# Altium footprint library SeniorProject.PcbLib: 26 footprints (part 1 of 2)
Each footprint in its own frame and in the unit in brackets; x right, y up, seen from the top. Pads: shape width x height; smd on the part's side, far side on the other; paste and mask are expansions set on the pad; w line width, h text height; cw(c..) or ccw(c..) is an arc to the next point about the centre after c.
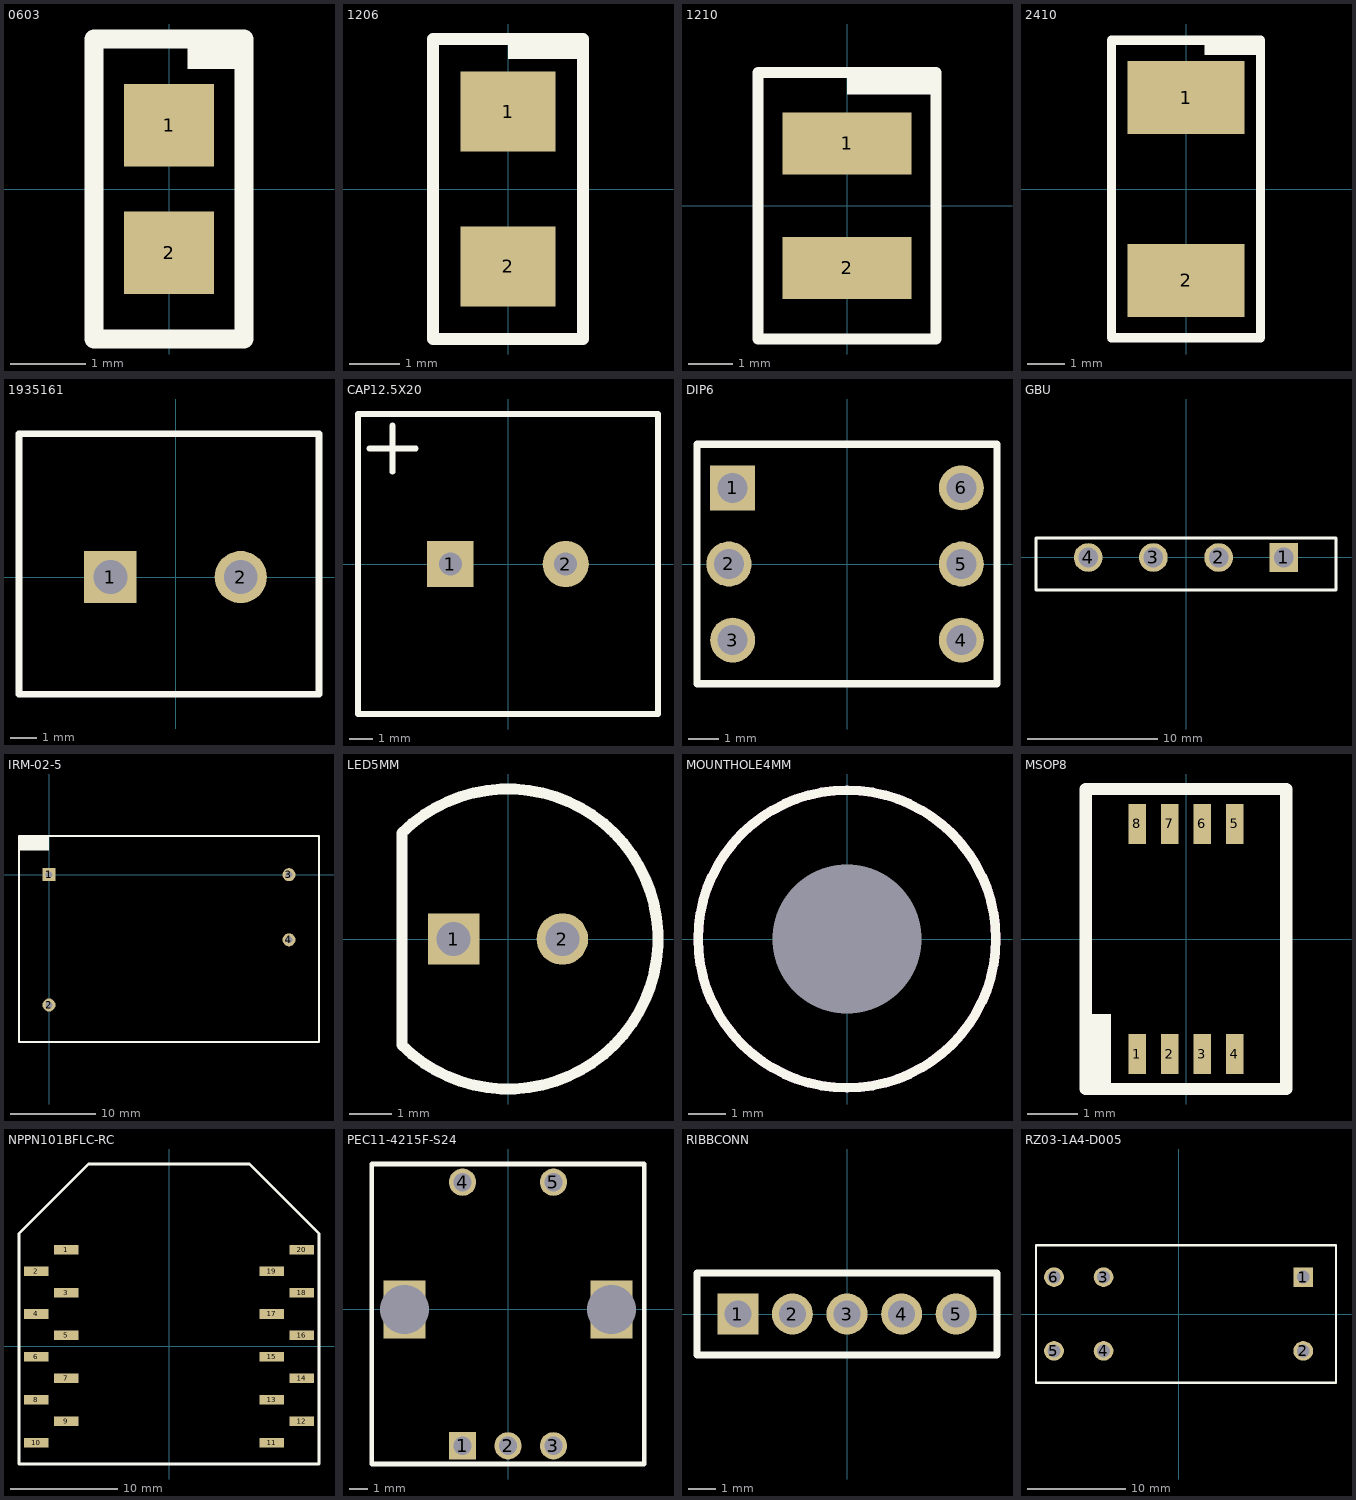
[diagram p0: the footprints below, top view; thin cyan lines are the x and y axes]

## 0603 [mm]
pads (2):
  rect 1.2x1.1 smd: 1(0,0.85) 2(0,-0.85)
Top Overlay:
  rectangle: 0.25,1.6 1,2
  lines w0.25: -1,-2 1,-2 1,2 -1,2 -1,-2
3D body "RES0603.STEP": height 0.44, standoff -0.02, extent -0.43,-0.775 0.43,0.775

## 1206 [mm]
pads (2):
  rect 1.9x1.6 smd: 1(0,1.55) 2(0,-1.55)
Top Overlay:
  rectangle: 0,2.6 1.5,3
  lines w0.25: -1.5,-3 1.5,-3 1.5,3 -1.5,3 -1.5,-3
3D body: height 1.5, standoff 0, extent -0.8,-1.6 0.8,1.6

## 1210 [mm]
pads (2):
  rect 2.9x1.4 smd: 1(0,1.4) 2(0,-1.4)
Top Overlay:
  region: 2,2.5 2,3 0,3 0,2.5
  lines w0.25: -2,-3 -2,3 2,3 2,-3 -2,-3
3D body: height 2.7, standoff 0, extent -1.35,-1.75 1.35,1.75

## 2410 [mm]
pads (2):
  rect 3.15x1.96 smd: 1(0,2.455) 2(0,-2.455)
Top Overlay:
  rectangle: 0.5,3.6 2,4
  lines w0.25: -2,-4 -2,4 2,4 2,-4 -2,-4
3D body "0679H.stp": height 2.58, standoff 0.04, extent -1.27,-3.05 1.27,3.05

## 1935161 [mm]
pads (2):
  rect 2x2 hole 1.3: 1(-2.5,0)
  round 2 hole 1.3: 2(2.5,0)
Top Overlay:
  lines w0.25: -6,-4.5 5.5,-4.5 5.5,5.5 -6,5.5 -6,-4.5
3D body "1935161_03.stp": height 11.4, standoff -3.5, extent -5.585,-4 4.985,5

## CAP12.5X20 [mm]
pads (2):
  rect 2x2 hole 1: 1(-2.5,0)
  round 2 hole 1: 2(2.5,0)
Top Overlay:
  lines w0.25: -6,5 -4,5 ; -5,4 -5,6 ; -6.5,-6.5 -6.5,6.5 6.5,6.5 6.5,-6.5 -6.5,-6.5
3D body "CAP12.5X20.stp": height 20.33, standoff -18.67, extent -6.245,-6.25 6.245,6.25

## DIP6 [mm]
pads (6):
  rect 1.5x1.5 hole 1: 1(-3.81,2.54)
  round 1.5 hole 1: 2(-3.935,0) 3(-3.81,-2.54) 4(3.81,-2.54) 5(3.81,0) 6(3.81,2.54)
Top Overlay:
  lines w0.25: -5,-4 5,-4 5,4 -5,4 -5,-4
3D body "DIP6.STEP": height 4.4, standoff -2.9, extent -3.935,-3.63 3.935,3.63
3D body: height 0.92, standoff -0.92, extent 4.1,5.08 4.1,5.08
3D body: height 0.92, standoff -0.92, extent 0,2.54 0,2.54

## GBU [mm]
pads (4):
  rect 2.2x2.2 hole 1.5: 1(7.5,0)
  round 2.2 hole 1.5: 2(2.5,0) 3(-2.5,0) 4(-7.5,0)
Top Overlay:
  lines w0.25: -11.5,-2.5 -11.5,1.5 11.5,1.5 11.5,-2.5 -11.5,-2.5
3D body "GBU.STEP": height 21.27, standoff -15.02, extent -11.025,-2.215 11.025,1.215

## IRM-02-5 [mil] "IRM-02-5"
pads (4):
  rect 60x60 hole 31.5: 1(0,0)
  round 60 hole 31.5: 2(0,-598.43)
  round 60 hole 30: 3(1102.36,0) 4(1102.36,-299.21)
Top Overlay:
  rectangle: -137.8,110.24 0,177.17
  lines w9.84: -137.8,-767.72 -137.8,177.17 1240.16,177.17 1240.16,-767.72 -137.8,-767.72
3D body: height 0, standoff -275.59, extent 1088.64,-312.96 1116.09,-285.46
3D body: height 0, standoff -275.59, extent -13.72,-612.18 13.72,-584.67
3D body: height 0, standoff -275.59, extent 1088.64,-13.75 1116.09,13.75
3D body: height 0, standoff -275.59, extent -13.67,-13.75 13.78,13.75
3D body: height 10, standoff 0, extent 0,0 0,0
3D body: height 10, standoff 0, extent 0,0 0,0
3D body: height 10, standoff 0, extent 0,0 0,0
3D body: height 10, standoff 0, extent 0,-299.21 0,-299.21
3D body: height 590.55, standoff 0, extent -112.2,-736.22 1214.57,137.8

## LED5MM [mm]
pads (2):
  rect 1.2x1.2 hole 0.8: 1(-1.27,0)
  round 1.2 hole 0.8: 2(1.27,0)
Top Overlay:
  lines w0.25: -2.475,-2.475 -2.475,2.475
  lines w0.254: -2.475,-2.475 ccw(c0,0) -2.475,2.475
3D body "LED5MM.STEP": height 13.6, standoff -20, extent -2.575,-2.947 2.875,2.947

## MOUNTHOLE4MM [mm]
pads (1):
  round 0 hole 4 unplated: ""(0,0)
Top Overlay:
  circle w0.254: c0,0 r4
Bottom Overlay:
  circle w0.254: c0,0 r4.031
Keep-Out Layer:
  circle w0.254: c0,0 r4

## MSOP8 [mm]
pads (8):
  rect 0.35x0.8 smd mask+0.051: 1(-0.975,-2.3) 2(-0.325,-2.3) 3(0.325,-2.3) 4(0.975,-2.3) 5(0.975,2.3) 6(0.325,2.3) 7(-0.325,2.3) 8(-0.975,2.3)
Top Overlay:
  rectangle: -2,-3 -1.5,-1.5
  lines w0.25: -2,-3 2,-3 2,3 -2,3 -2,-3
3D body "msop-8.SLDPRT": height 1.15, standoff 0, extent -1.5,-2.45 1.5,2.45

## NPPN101BFLC-RC [mm]
pads (20):
  rect 2.29x0.89 smd: 1(-9.605,9) 2(-12.395,7) 3(-9.605,5) 4(-12.395,3) 5(-9.605,1) 6(-12.395,-1) 7(-9.605,-3) 8(-12.395,-5) 9(-9.605,-7) 10(-12.395,-9) 11(9.605,-9) 12(12.395,-7) 13(9.605,-5) 14(12.395,-3) 15(9.605,-1) 16(12.395,1) 17(9.605,3) 18(12.395,5) 19(9.605,7) 20(12.395,9)
Top Overlay:
  lines w0.25: -14,-11 14,-11 14,10.5 7.5,17 4.7,17 -4.7,17 -7.5,17 -14,10.5 -14,-11
3D body "NPPN101BFLC-RC.STEP": height -0.44, standoff -5.04, extent 9.002,-10.25 12.998,10.25
3D body "NPPN101BFLC-RC.STEP": height -0.44, standoff -5.04, extent -12.998,-10.25 -9.002,10.25
3D body: height 3.5, standoff 0, extent -9.605,9 -9.605,9

## PEC11-4215F-S24 [mm]
pads (7):
  rect 1.5x1.5 hole 1: 1(-2.5,-7.5)
  round 1.5 hole 1: 2(0,-7.5) 3(2.5,-7.5) 4(-2.5,7) 5(2.5,7)
  rect 2.3x3.2 hole 2.7 square: ""(-5.7,0) ""(5.7,0)
Top Overlay:
  lines w0.25: -7.5,-8.5 7.5,-8.5 7.5,8 -7.5,8 -7.5,-8.5
3D body "pec11r-4215k-n0024.stp": height 21.6, standoff -3.6, extent -7,-7.65 7,7.25

## RIBBCONN [mm]
pads (5):
  rect 1.5x1.5 hole 1: 1(-4,0)
  round 1.5 hole 1: 2(-2,0) 3(0,0) 4(2,0) 5(4,0)
Top Overlay:
  lines w0.25: -5.5,-1.5 -5.5,1.5 5.5,1.5 5.5,-1.5 -5.5,-1.5

## RZ03-1A4-D005 [mm]
pads (6):
  rect 2x2 hole 1.3: 1(12.67,3.75)
  round 2 hole 1.3: 2(12.67,-3.75) 3(-7.63,3.75) 4(-7.63,-3.75) 5(-12.67,-3.75) 6(-12.67,3.75)
Top Overlay:
  lines w0.25: -14.5,-7 -14.5,7 16,7 16,-7 -14.5,-7
3D body "RZ03-1A4-D005.stp": height 15.7, standoff -3.5, extent -13.82,-6.35 15.18,6.35
3D body: height 3.5, standoff 0, extent 8.76,4.5 8.76,4.5
3D body: height 3.5, standoff 0, extent 12.67,3.75 12.67,3.75
3D body: height 3.5, standoff 0, extent 1.26,6.35 1.26,6.35